# Altium schematic symbol library BQ34Z100PW.SchLib: 1 symbol
Pins are listed as number, name and electrical type; pins without a type are passive.

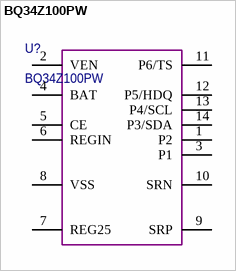
[diagram p0: symbol BQ34Z100PW]

## BQ34Z100PW
designator U?
pins: 1 P2, 2 VEN, 3 P1, 4 BAT, 5 CE, 6 REGIN, 7 REG25, 8 VSS, 9 SRP, 10 SRN, 11 P6/TS, 12 P5/HDQ, 13 P4/SCL, 14 P3/SDA